# EAGLE library part PWR_EFUSE_TPS25925X/6X (library !GPLIB_ACTIVE)
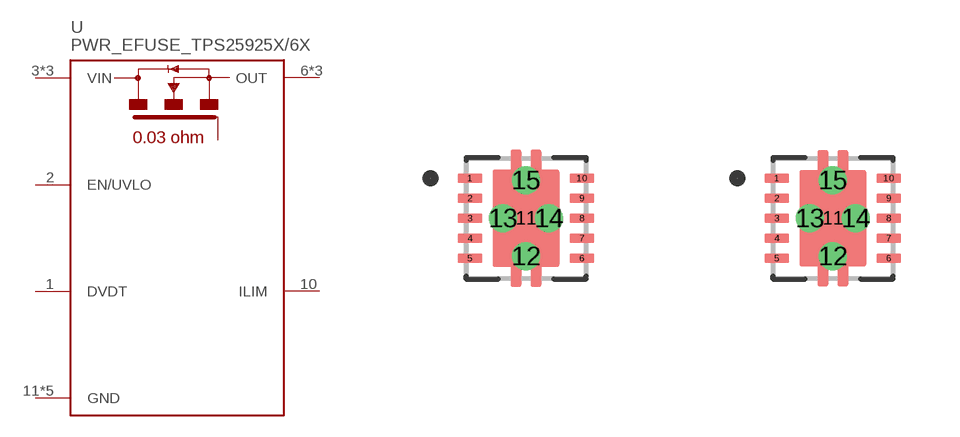
[diagram p40: symbol with the pads of SON50P300X300X100-11N; footprints SON50P300X300X100-11N, SON50P300X300X100-11N-V2]

Designator prefix U

## PWR_EFUSE_TPS25925X/6X_TPS259251  [SON50P300X300X100-11N]
1  DVDT  out
2  EN/UVLO  in
3  VIN  pwr
4  VIN  pwr
5  VIN  pwr
6  OUT  out
7  OUT  out
8  OUT  out
10  ILIM  out
11  GND  pwr
12  GND  pwr
13  GND  pwr
14  GND  pwr
15  GND  pwr

## PWR_EFUSE_TPS25925X/6X_TPS259261DRCR  [SON50P300X300X100-11N-V2]
Pads as for SON50P300X300X100-11N

## Footprint SON50P300X300X100-11N (pad centres in mm)
smd 0.6 x 0.24: 1 -1.4,1; 2 -1.4,0.5; 3 -1.4,0; 4 -1.4,-0.5; 5 -1.4,-1; 6 1.4,-1; 7 1.4,-0.5; 8 1.4,0; 9 1.4,0.5; 10 1.4,1
smd 0.5 x 0.5: 11 0,0
drill 0.2 pad 0.3: 12 0,-0.95; 13 -0.575,0; 14 0.575,0; 15 0,0.95

## Footprint SON50P300X300X100-11N-V2 (pad centres in mm)
smd 0.6 x 0.24: 1 -1.4,1; 2 -1.4,0.5; 3 -1.4,0; 4 -1.4,-0.5; 5 -1.4,-1; 6 1.4,-1; 7 1.4,-0.5; 8 1.4,0; 9 1.4,0.5; 10 1.4,1
smd 0.5 x 0.5: 11 0,0
drill 0.2 pad 0.3: 12 0,-0.95; 13 -0.575,0; 14 0.575,0; 15 0,0.95